# EAGLE library part HDC1080 (library Takaitra)
Low Power, High Accuracy Digital Humidity Sensor with Temperature Sensor
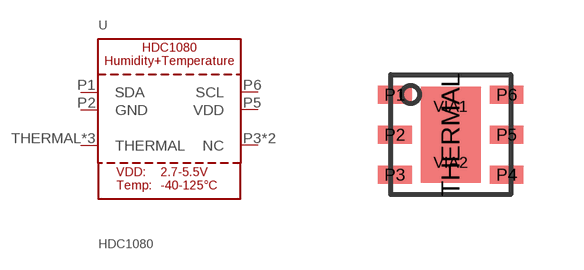
[diagram p1: symbol with the pads of PWSON-6; footprint PWSON-6]

Designator prefix -

## HDC1080  [PWSON-6]
P1  SDA
P2  GND  pwr
P3  NC  nc
P4  NC  nc
P5  VDD  pwr
P6  SCL  in
THERMAL  THERMAL  pas
VIA1  THERMAL  pas
VIA2  THERMAL  pas

## Footprint PWSON-6 (pad centres in mm)
Plastic Small Outline No-Lead (6 pins)
smd 0.85 x 0.45: P1 0.1,-0.5; P2 0.1,-1.5; P3 0.1,-2.5; P4 2.9,-2.5; P5 2.9,-1.5; P6 2.9,-0.5
smd 1.5 x 2.4: THERMAL 1.5,-1.5
drill 0.34: VIA1 1.5,-0.8; VIA2 1.5,-2.2